# Altium footprint library PCB - LED - OASISTEK TO-2106-MRF.PCBLIB: 1 footprints
Each footprint in its own frame and in the unit in brackets; x right, y up, seen from the top. Pads: shape width x height; smd on the part's side, far side on the other; paste and mask are expansions set on the pad; w line width, h text height; cw(c..) or ccw(c..) is an arc to the next point about the centre after c.
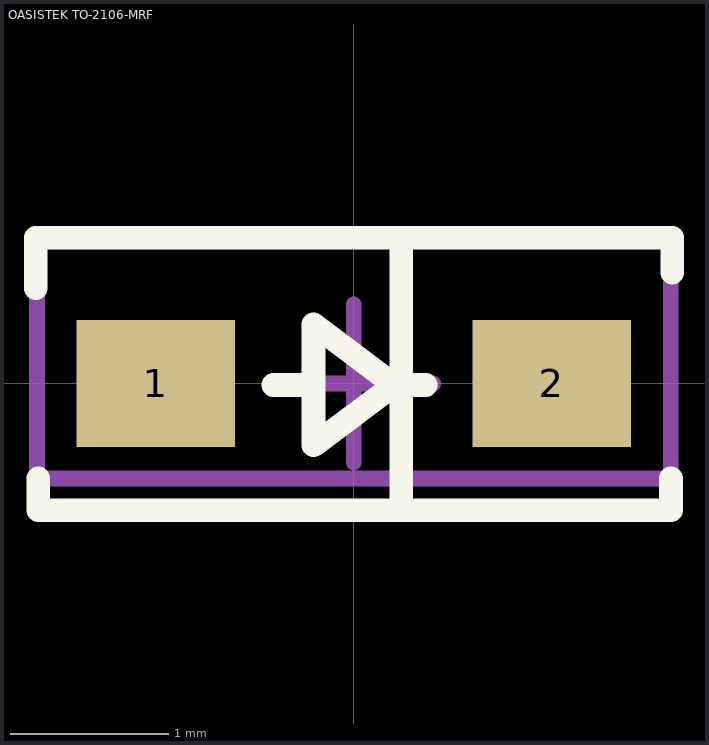
[diagram p0: the footprint, top view; thin cyan lines are the x and y axes]

## OASISTEK TO-2106-MRF [mm] "Chip Side Emmiting Diode, 2-Leads, Body 2.1x1.00mm, IPC Medium Density"
height 0.6
pads (2):
  rect 1x0.8 smd: 1(-1.25,0) 2(1.25,0)
Top Overlay:
  lines w0.15: -2.007,0.6 -2.007,0.919 2.009,0.919 2.009,0.7 ; -1.991,-0.6 -1.991,-0.8 2.001,-0.8 2.001,-0.6 ; -0.508,-0.009 -0.254,-0.009 ; 0.3,-0.8 0.3,0.9 ; 0.454,-0.009 0.254,-0.009 ; 0.254,-0.009 -0.254,0.372 -0.254,-0.39 0.254,-0.009
Top Assembly:
  lines w0.1: -2,-0.6 2,-0.6 2,0.9 -2,0.9 -2,-0.6
Top Component Center:
  lines w0.1: -0.5,0 0.5,0 ; 0,-0.5 0,0.5
Top Courtyard:
  lines w0.05: -2,-0.6 -2,0.9 2,0.9 2,-0.6 -2,-0.6
3D body "LED TO-2106BC-MRF.STEP": height 0.6, standoff 0, extent -1.05,-0.25 1.05,0.75